# Altium integrated library EE209V2.IntLib: 25 symbols
Pins are listed as number, name and electrical type; pins without a type are passive.

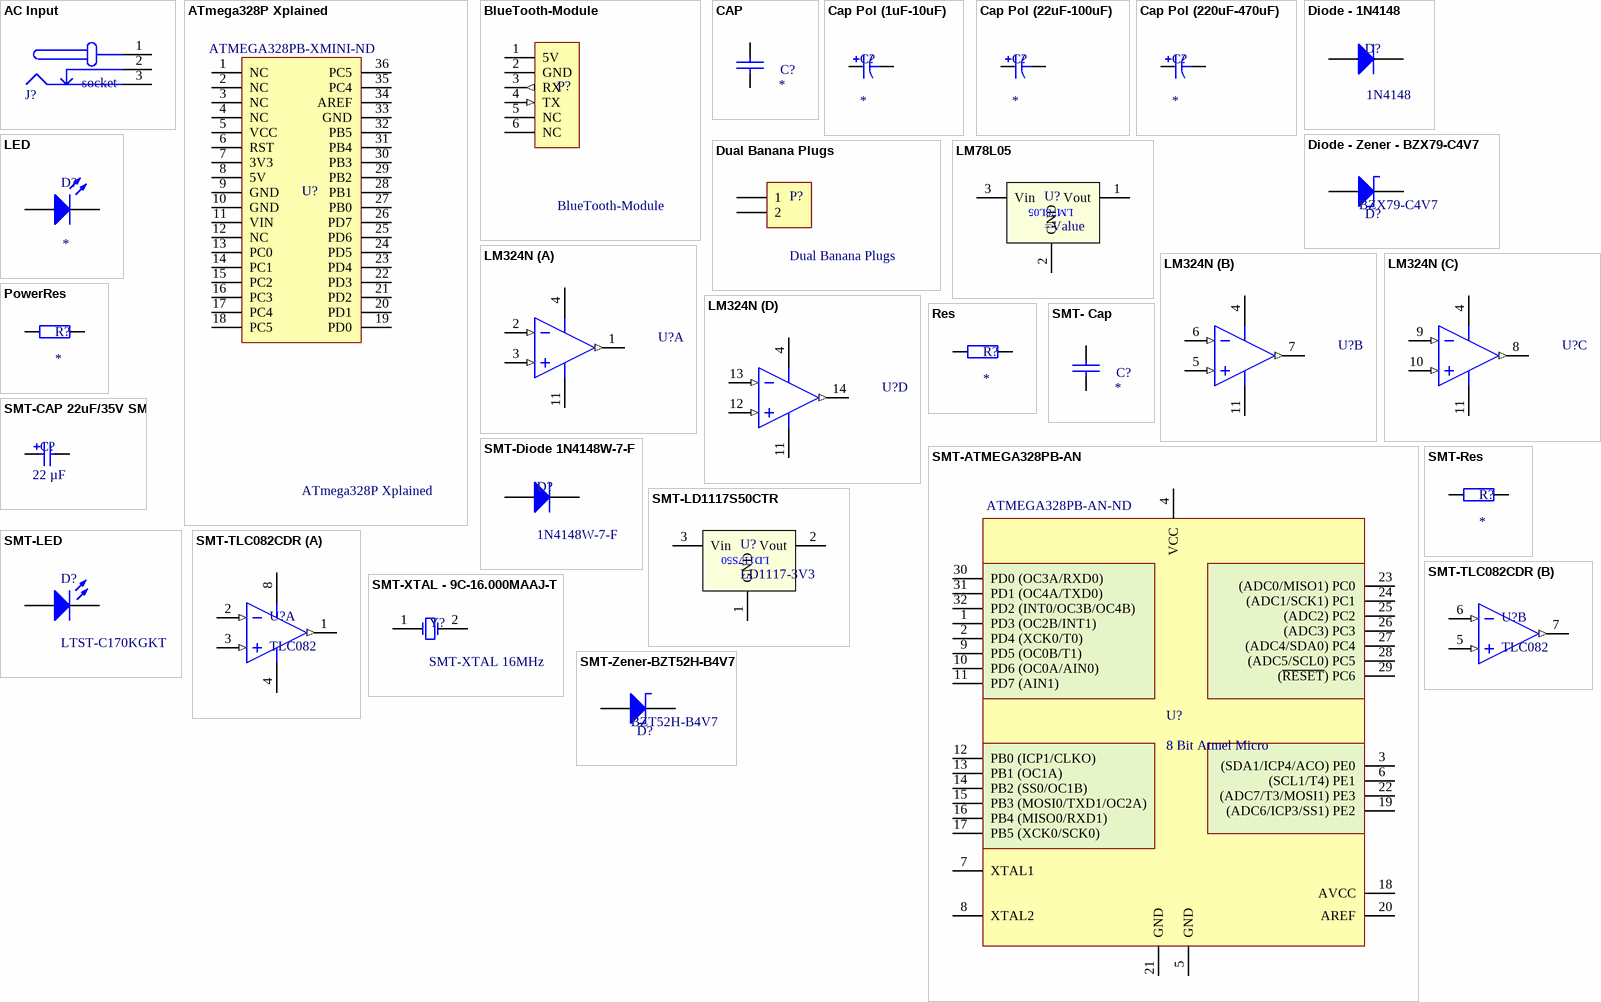
[diagram p0: symbols AC Input to SMT-Zener-BZT52H-B4V7]

## AC Input
designator J?, comment socket
DC socket; Value: socket
footprint AC-Socket
pins: 1 VCC (power) "Common VCC", 2 GND_ALT (power) "Alternate Supply Ground", 3 GND (power) "Common Ground"

## ATmega328P Xplained
designator U?  Supplier Part Number 1: ATMEGA328PB-XMINI-ND
Header, 18-Pin, Dual row; Manufacturer: Microchip Technology; Manufacturer Part Number: ATMEGA328PB-XMINI; Description: EVAL KIT FOR ATMEGA328; Board Type: Evaluation Platform; Core Processor: AVR; Platform: ATmega328P Xplained Mini; Contents: Board(s); Supplier 1: Digi-Key; RoHS: RoHS Compliant; Category: Development Boards, Kits, Programmers; Stock 1: 454; Pricing 1: 1=15.11 (NZD); Part Status: Active; Type: MCU 8-Bit; Operating System: -; For Use With/Related Products: ATmega328P; Mounting Type: Fixed; ComponentLink1URL: http://www.microchip.com/mymicrochip/filehandler.aspx?ddocname=en589665; ComponentLink1Description: http://www.microchip.com/mymicrochip/filehandler.aspx?ddocname=en589665
footprint ATmeg328P Xplained
pins: 1 NC, 2 NC, 3 NC, 4 NC, 5 VCC (power), 6 RST, 7 3V3, 8 5V (power), 9 GND (power), 10 GND (power), 11 VIN (power), 12 NC, 13 PC0, 14 PC1, 15 PC2, 16 PC3, 17 PC4, 18 PC5, 19 PD0, 20 PD1, 21 PD2, 22 PD3, 23 PD4, 24 PD5, 25 PD6, 26 PD7, 27 PB0, 28 PB1, 29 PB2, 30 PB3, 31 PB4, 32 PB5, 33 GND, 34 AREF, 35 PC4, 36 PC5

## BlueTooth-Module
designator P?
Header, 6-Pin; LatestRevisionDate: 17-Jul-2002; LatestRevisionNote: Re-released for DXP Platform.; Publisher: Altium Limited
footprint HDR1X6 (Connector; Header; 6 Position)
signal-integrity model Connector
pins: 1 5V, 2 GND, 3 RX (out), 4 TX (in), 5 NC, 6 NC

## CAP
designator C?
Capacitor Non Polarised Through Hole; Value: *
footprint FILM CAP-0.2
pins: 1, 2

## Cap Pol (1uF-10uF)
designator C?
Polarized Capacitor (Axial); Published: 8-Jun-2000; LatestRevisionDate: 17-Jul-2002; LatestRevisionNote: Re-released for DXP Platform.; PackageReference: POLAR0.8; Publisher: Altium Limited; PackageDescription: Polarized Capacitor; 2 Leads; Value: *
footprint CAP-RAD-2mm Pitch (Cap 5 X 6.8)
pins: 1, 2
1 alternate drawing of the same symbol

## Cap Pol (22uF-100uF)
designator C?
Polarized Capacitor (Axial); Published: 8-Jun-2000; LatestRevisionDate: 17-Jul-2002; LatestRevisionNote: Re-released for DXP Platform.; PackageReference: POLAR0.8; Publisher: Altium Limited; PackageDescription: Polarized Capacitor; 2 Leads; Value: *
footprint CAP-RAD-3mm Pitch
pins: 1, 2
1 alternate drawing of the same symbol

## Cap Pol (220uF-470uF)
designator C?
Polarized Capacitor (Axial); Published: 8-Jun-2000; LatestRevisionDate: 17-Jul-2002; LatestRevisionNote: Re-released for DXP Platform.; PackageReference: POLAR0.8; Publisher: Altium Limited; PackageDescription: Polarized Capacitor; 2 Leads; Value: *
footprint CAP-RAD-7.5mm Pitch
pins: 1, 2
1 alternate drawing of the same symbol

## Diode - 1N4148
designator D?, comment 1N4148
DIODE GEN PURP 100V 200MA DO35; Manufacturer: ON Semiconductor; Manufacturer Part Number: 1N4148TR; Diode Type: Standard; Speed: Small Signal =< 200mA (Io), Any Speed; Capacitance @ Vr, F: 4pF @ 0V, 1MHz; Supplier 1: Digi-Key; RoHS: RoHS Compliant; Category: Discrete Semiconductor Products; Stock 1: 1658049; Pricing 1: 1=0.16, 10=0.109, 100=0.0592, 500=0.03648, 1000=0.02488 (NZD); Part Status: Active; Current - Average Rectified (Io): 200mA; Mounting Type: Through Hole; Package / Case: DO-204AH, DO-35, Axial; Supplier Device Package: DO-35; Operating Temperature - Junction: -65°C ~ 175°C; Base Part Number: 1N4148; ComponentLink1URL: https://www.fairchildsemi.com/datasheets/1N/1N914.pdf; ComponentLink1Description: https://www.fairchildsemi.com/datasheets/1N/1N914.pdf; Supplier Part Number 1: 1N4148FSCT-ND
footprint AXIAL-DIODE-0.4
pins: 1 A, 2 K

## Diode - Zener - BZX79-C4V7
designator D?, comment BZX79-C4V7
Zener Diode; Manufacturer: Nexperia USA Inc.; Manufacturer Part Number: BZX79-C4V7,143; Description: DIODE ZENER 4.7V 400MW DO35; Tolerance: ±5%; Supplier 1: Digi-Key; RoHS: RoHS Compliant; Category: Discrete Semiconductor Products; Stock 1: 8933; Pricing 1: 1=0.23, 10=0.206, 100=0.1123, 500=0.06912, 1000=0.04714 (NZD); Packaging: Cut Tape (CT); Part Status: Active; Operating Temperature: -65°C ~ 200°C; Mounting Type: Through Hole; Package / Case: DO-204AH, DO-35, Axial; Supplier Device Package: DO-35; ComponentLink1URL: https://assets.nexperia.com/documents/data-sheet/BZX79.pdf; ComponentLink1Description: https://assets.nexperia.com/documents/data-sheet/BZX79.pdf; Supplier Part Number 1: 1727-1864-1-ND
footprint AXIAL-DIODE-0.4
pins: 1 A, 2 K

## Dual Banana Plugs
designator P?
M6 Holes; LatestRevisionDate: 17-Jul-2002; LatestRevisionNote: Re-released for DXP Platform.; Publisher: Altium Limited
footprint Dual Banana Plug (Connector; 2 Position)
pins: 1, 2

## LED
designator D?
Typical GaAs LED; Manufacturer: Generic Components; Class I: Optoelectronic; Published: 8-Jun-2000; Revision: July-2002: Re-released for DXP Platform.; Publisher: Altium Limited; Class II: LED; Value: *
footprint LED
pins: 1 A, 2 K

## LM78L05
designator U?
Voltage Regulator; Manufacturer: ON Semiconductor; Manufacturer Part Number: LM78L05ACZX; Description: IC REG LINEAR 5V 100MA TO92-3; Output Configuration: Positive; Output Type: Fixed; Voltage - Input (Max): 30V; Voltage - Output (Min/Fixed): 5V; Current - Output: 100mA; PSRR: 80dB (120Hz); Protection Features: Over Temperature, Short Circuit; Supplier 1: Digi-Key; RoHS: RoHS Compliant; Category: Integrated Circuits (ICs); Stock 1: 7782; Pricing 1: 1=0.69, 10=0.517, 100=0.3226, 500=0.2207, 1000=0.16976 (NZD); Packaging: Cut Tape (CT); Part Status: Active; Voltage - Output (Max): -; Voltage Dropout (Max): -; Control Features: -; Operating Temperature: -40°C ~ 125°C; Mounting Type: Through Hole; Package / Case: TO-226-3, TO-92-3 (TO-226AA) (Formed Leads); Supplier Device Package: TO-92-3; Base Part Number: LM78L05; ComponentLink1URL: https://www.fairchildsemi.com/datasheets/MC/MC78L05A.pdf; ComponentLink1Description: https://www.fairchildsemi.com/datasheets/MC/MC78L05A.pdf; Supplier Part Number 1: LM78L05ACZXCT-ND
footprint ECE-REG-LE-TO-92 (Regulator LE50)
pins: 1 Vout, 2 GND, 3 Vin

## LM324N
designator U?, comment LM324  (value not drawn)
IC OPAMP GP 14DIP; Manufacturer: ON Semiconductor; Manufacturer Part Number: LM324N; Amplifier Type: General Purpose; Current - Supply: 1mA; Voltage - Supply, Single/Dual (±): 3 V ~ 32 V, ±1.5 V ~ 16 V; Supplier 1: Digi-Key; RoHS: RoHS Compliant; Category: Integrated Circuits (ICs); Stock 1: 2900; Pricing 1: 1=0.9, 10=0.775, 100=0.5789, 500=0.45482, 1000=0.35145 (NZD); Packaging: Tube; Part Status: Active; Output Type: -; Slew Rate: -; Operating Temperature: 0°C ~ 70°C; Mounting Type: Through Hole; Package / Case: 14-DIP (0.300", 7.62mm); Supplier Device Package: 14-DIP; Base Part Number: LM324; ComponentLink1URL: https://www.fairchildsemi.com/datasheets/LM/LM2902.pdf; ComponentLink1Description: https://www.fairchildsemi.com/datasheets/LM/LM2902.pdf; Supplier Part Number 1: LM324NFS-ND
footprint DIP-14 (DIP; 14 Leads; Row Spacing 7.62 mm; Pitch 2.54 mm)
pins on every part: 4 VDD (power), 11 VSS (power)
part A pins: 1 VOUTA (out), 2 VINA- (in), 3 VINA+ (in)
part B pins: 5 VINB+ (in), 6 VINB- (in), 7 VOUTB (out)
part C pins: 8 VOUTC (out), 9 VINC- (in), 10 VINC+ (in)
part D pins: 12 VIND+ (in), 13 VIND- (in), 14 VOUTD (out)

## PowerRes
designator R?
High Wattage Resistor; Published: 8-Jun-2000; LatestRevisionDate: 17-Jul-2002; LatestRevisionNote: Re-released for DXP Platform.; PackageReference: AXIAL-0.4; Publisher: Altium Limited; Value: *
footprint AXIAL-0.9
pins: 1, 2

## Res
designator R?
Through Hole Resistor; Published: 8-Jun-2000; LatestRevisionDate: 17-Jul-2002; LatestRevisionNote: Re-released for DXP Platform.; PackageReference: AXIAL-0.4; Publisher: Altium Limited; Value: *; ComponentLink1Description: http://www.royalohm.com/pdf/product2017/PrecisionMetalMF.pdf
footprint AXIAL-0.4
pins: 1, 2

## SMT- Cap
designator C?
SMT Capacitor Non Polarised; Value: *
footprint 0805 CAP (http://www.digikey.co.nz/Web%20Export/Supplier%20Content/Vishay_8026/PDF/VishayBeyschlag_SolderPad.pdf?redirected=1 with dimension G modified by +0.25mm)
pins: 1, 2

## SMT-ATMEGA328PB-AN
designator U?, comment 8 Bit Atmel Micro  Supplier Part Number 1: ATMEGA328PB-AN-ND
IC MCU 8BIT 32KB FLASH 32TQFP; Manufacturer Part Number: ATMEGA328PB-AN; Core Processor: AVR; Core Size: 8-Bit; Speed: 20MHz; Connectivity: I²C, SPI, UART/USART; Peripherals: Brown-out Detect/Reset, POR, PWM, WDT; Number of I/O: 27; Program Memory Size: 32KB (16K x 16); EEPROM Size: 1K x 8; RAM Size: 2K x 8; Voltage - Supply (Vcc/Vdd): 1.8 V ~ 5.5 V; Data Converters: A/D 8x10b; Oscillator Type: Internal; Supplier 1: Digi-Key; Manufacturer: Atmel; RoHS: RoHS Compliant; Category: Integrated Circuits (ICs); Stock 1: 366; Pricing 1: 1=2.74, 10=2.448, 25=2.2032, 100=2.0074, 250=1.81152, 500=1.62548, 1000=1.37088 (USD); Packaging: Tray; Part Status: Active; Program Memory Type: FLASH; Operating Temperature: -40°C ~ 105°C (TA); Package / Case: 32-TQFP; Supplier Device Package: 32-TQFP (7x7); ComponentLink1URL: http://www.atmel.com/images/atmel-42397-8-bit-avr-microcontroller-atmega328pb_datasheet.pdf; ComponentLink1Description: http://www.atmel.com/images/atmel-42397-8-bit-avr-microcontroller-atmega328pb_datasheet.pdf
footprint 32 - TQFP
pins: 1 PD3 (OC2B/INT1) , 2 PD4 (XCK0/T0) , 3 (SDA1/ICP4/ACO) PE0, 4 VCC, 5 GND, 6 (SCL1/T4) PE1, 7 XTAL1, 8 XTAL2, 9 PD5 (OC0B/T1) , 10 PD6 (OC0A/AIN0) , 11 PD7 (AIN1) , 12 PB0 (ICP1/CLKO) , 13 PB1 (OC1A) , 14 PB2 (SS0/OC1B) , 15 PB3 (MOSI0/TXD1/OC2A) , 16 PB4 (MISO0/RXD1) , 17 PB5 (XCK0/SCK0), 18 AVCC, 19 (ADC6/ICP3/SS1) PE2, 20 AREF, 21 GND, 22 (ADC7/T3/MOSI1) PE3, 23 (ADC0/MISO1) PC0, 24 (ADC1/SCK1) PC1, 25 (ADC2) PC2, 26 (ADC3) PC3, 27 (ADC4/SDA0) PC4, 28 (ADC5/SCL0) PC5, 29 (~{RESET}) PC6, 30 PD0 (OC3A/RXD0), 31 PD1 (OC4A/TXD0), 32 PD2 (INT0/OC3B/OC4B)

## SMT-CAP 22uF/35V SM
designator C?, comment Capacitance 1: 22 µF  (hidden comment: CAP ALUM 22UF 20% 50V SMD)
Manufacturer: Nichicon; Manufacturer Part Number: UWX1V220MCL1GB; Description: CAP ALUM 22UF 20% 35V SMD; Lifetime @ Temp.: 2000 Hrs @ 85°C; Polarization: Polar; Surface Mount Land Size: 0.260" L x 0.260" W (6.60mm x 6.60mm); Revision: July-2002: Re-released for DXP Platform.; Supplier 1: Digi-Key; RoHS: RoHS Compliant; Category: Capacitors; Stock 1: 680; Pricing 1: 1=0.59, 10=0.406, 100=0.2304, 500=0.16268 (NZD); Packaging: Cut Tape (CT); Part Status: Active; Tolerance: ±20%; ESR (Equivalent Series Resistance): -; Operating Temperature: -40°C ~ 85°C; Ratings: -; Applications: General Purpose; Lead Spacing: -; Size / Dimension: 0.248" Dia (6.30mm); Height - Seated (Max): 0.213" (5.40mm); Mounting Type: Surface Mount; Package / Case: Radial, Can - SMD; ComponentLink1URL: http://nichicon-us.com/english/products/pdfs/e-uwx.pdf; ComponentLink1Description: http://nichicon-us.com/english/products/pdfs/e-uwx.pdf; Supplier Part Number 1: 493-2118-1-ND
footprint CAP POL 8x5.4mm SMT
pins: 1, 2

## SMT-Diode 1N4148W-7-F
designator D?, comment 1N4148W-7-F
DIODE GEN PURP 100V 300MA SOD123; Manufacturer: Diodes Incorporated; Manufacturer Part Number: 1N4148W-13-F; Description: DIODE GEN PURP 100V 150MA SOD123; Diode Type: Standard; Current - Average Rectified (Io): 150mA; Speed: Small Signal =< 200mA (Io), Any Speed; Capacitance @ Vr, F: 2pF @ 0V, 1MHz; Supplier 1: Digi-Key; RoHS: RoHS Compliant; Category: Discrete Semiconductor Products; Stock 1: 5282; Pricing 1: 1=0.33, 10=0.292, 100=0.1586, 500=0.0976, 1000=0.06656 (NZD); Packaging: Cut Tape (CT); Part Status: Active; Mounting Type: Surface Mount; Package / Case: SOD-123; Supplier Device Package: SOD-123; Operating Temperature - Junction: -65°C ~ 150°C; Base Part Number: 1N4148W; ComponentLink1URL: https://www.diodes.com/assets/Datasheets/ds30086.pdf; ComponentLink1Description: https://www.diodes.com/assets/Datasheets/ds30086.pdf; Supplier Part Number 1: 1N4148W-13FDICT-ND
footprint SOD123 (SOD-123; 2 Leads; Body 2.7 x 1.6 mm, (LxW))
pins: 1 A, 2 K

## SMT-LD1117S50CTR
designator U?, comment LD1117-3V3
LDO Voltage Regulator 5V; Manufacturer: STMicroelectronics; Manufacturer Part Number: LD1117S50CTR; Description: IC REG LINEAR 5V 800MA SOT223; Output Configuration: Positive; Output Type: Fixed; Voltage - Input (Max): 15V; Voltage Dropout (Max): 1.3V @ 800mA; Current - Output: 800mA; PSRR: 75dB (120Hz); Protection Features: Over Current, Over Temperature; Value: LD1117-3V3; Supplier 1: Digi-Key; RoHS: RoHS Compliant; Category: Integrated Circuits (ICs); Stock 1: 24009; Pricing 1: 1=0.7, 10=0.596, 100=0.4451, 500=0.34978, 1000=0.27029 (NZD); Packaging: Cut Tape (CT); Part Status: Active; Voltage - Output (Min/Fixed): 5V; Voltage - Output (Max): -; Control Features: -; Operating Temperature: -40°C ~ 125°C; Mounting Type: Surface Mount; Package / Case: TO-261-4, TO-261AA; Supplier Device Package: SOT-223; Base Part Number: LD1117; ComponentLink1URL: http://www.st.com/content/ccc/resource/technical/document/datasheet/99/3b/7d/91/91/51/4b/be/CD00000544.pdf/files/CD00000544.pdf/jcr:content/translations/en.CD00000544.pdf; ComponentLink1Description: http://www.st.com/content/ccc/resource/technical/document/datasheet/99/3b/7d/91/91/51/4b/be/CD00000544.pdf/files/CD00000544.pdf/jcr:content/translations/en.CD00000544.pdf; Supplier Part Number 1: 497-1243-1-ND
footprint SOT223 (SOT223_TRANSISTOR)
pins: 1 GND, 2 Vout, 3 Vin
text: LD117S50

## SMT-LED
designator D?, comment LTST-C170KGKT
SMT LED; Manufacturer: Lite-On Inc.; Description: LED GREEN CLEAR 0805 SMD; Color: Green; Lens Color: Colorless; Lens Transparency: Clear; Millicandela Rating: 35mcd; Lens Style/Size: Rectangle with Flat Top, 1.40mm x 1.25mm; Voltage - Forward (Vf) (Typ): 2V; Current - Test: 20mA; Viewing Angle: 130°; Wavelength - Dominant: 571nm; Wavelength - Peak: 574nm; Supplier 1: Digi-Key; Manufacturer Part Number: LTST-C170KGKT; RoHS: RoHS Compliant; Category: Optoelectronics; Stock 1: 503069; Pricing 1: 1=0.62, 10=0.459, 25=0.338, 100=0.2415, 250=0.16416, 500=0.14486, 1000=0.11347 (NZD); Packaging: Cut Tape (CT); Part Status: Active; Mounting Type: Surface Mount; Features: -; Package / Case: 0805 (2012 Metric); Size / Dimension: 2.00mm L x 1.25mm W; Height (Max): 1.10mm; ComponentLink1URL: http://optoelectronics.liteon.com/upload/download/DS22-2000-073/LTST-C170KGKT.pdf; ComponentLink1Description: http://optoelectronics.liteon.com/upload/download/DS22-2000-073/LTST-C170KGKT.pdf; Supplier Part Number 1: 160-1414-1-ND
footprint 0805 LED (RED AS AlGaAs SMD LED, Body; 2mm x 1.25 mm (LxW))
pins: 1 A, 2 K

## SMT-Res
designator R?
SMT Resistor; Published: 8-Jun-2000; LatestRevisionDate: 17-Jul-2002; LatestRevisionNote: Re-released for DXP Platform.; PackageReference: AXIAL-0.4; Publisher: Altium Limited; Value: *; ComponentLink1Description: https://nz.mouser.com/datasheet/2/315/AOA0000C304-1149620.pdf
footprint 0805 RES (http://www.digikey.co.nz/Web%20Export/Supplier%20Content/Vishay_8026/PDF/VishayBeyschlag_SolderPad.pdf?redirected=1 with dimension G modified by +0.25mm)
pins: 1, 2

## SMT-TLC082CDR
designator U?, comment TLC082
IC OPAMP GP 10MHZ 8SOIC; Manufacturer: Texas Instruments; Manufacturer Part Number: TLC082CDR; Amplifier Type: General Purpose; Slew Rate: 19 V/µs; Current - Supply: 1.9mA; Voltage - Supply, Single/Dual (±): 4.5 V ~ 16 V, ±2.25 V ~ 8 V; Supplier 1: Digi-Key; RoHS: RoHS Compliant; Category: Integrated Circuits (ICs); Stock 1: 29765; Pricing 1: 1=3.44, 10=3.087, 100=2.4808, 500=2.03822, 1000=1.68881 (NZD); Packaging: Cut Tape (CT); Part Status: Active; Output Type: -; Operating Temperature: 0°C ~ 70°C; Mounting Type: Surface Mount; Package / Case: 8-SOIC (0.154", 3.90mm Width); Supplier Device Package: 8-SOIC; Base Part Number: TLC082; ComponentLink1URL: http://www.ti.com/lit/ds/symlink/tlc080a.pdf; ComponentLink1Description: http://www.ti.com/lit/ds/symlink/tlc080a.pdf; Supplier Part Number 1: 296-2421-1-ND
footprint SO - 8
part A pins: 1 VOUTA (out), 2 VINA- (in), 3 VINA+ (in), 4 VSS (power), 8 VDD (power)
part B pins: 5 VINA+ (in), 6 VINA- (in), 7 VOUTA (out)

## SMT-XTAL - 9C-16.000MAAJ-T
designator Y?, comment SMT-XTAL 16MHz
CRYSTAL 16.0000MHZ 18PF SMD; Manufacturer: TXC CORPORATION; Manufacturer Part Number: 9C-16.000MAAJ-T; Frequency Stability: ±30ppm; Operating Mode: Fundamental; Supplier 1: Digi-Key; RoHS: RoHS Compliant; Category: Crystals, Oscillators, Resonators; Stock 1: 11514; Pricing 1: 1=0.75, 10=0.628, 50=0.5656, 100=0.5026, 500=0.47744 (NZD); Packaging: Cut Tape (CT); Part Status: Active; Type: MHz Crystal; Frequency Tolerance: ±30ppm; Load Capacitance: 18pF; Operating Temperature: -20°C ~ 70°C; Ratings: -; Mounting Type: Surface Mount; Package / Case: HC-49/US; Size / Dimension: 0.449" L x 0.189" W (11.40mm x 4.80mm); Height - Seated (Max): 0.161" (4.10mm); ComponentLink1URL: http://www.txccorp.com/download/products/quartz_crystals/2015TXC_9C_32.pdf; ComponentLink1Description: http://www.txccorp.com/download/products/quartz_crystals/2015TXC_9C_32.pdf; Supplier Part Number 1: 887-1059-1-ND
footprint HC49-US (20Mhz Crystal)
pins: 1 OSC1, 2 OSC2

## SMT-Zener-BZT52H-B4V7
designator D?, comment BZT52H-B4V7
SMT Zener Diode; Manufacturer: Nexperia USA Inc.; Manufacturer Part Number: BZT52H-B4V7,115; Description: DIODE ZENER 4.7V 375MW SOD123F; Tolerance: ±2%; Supplier 1: Digi-Key; RoHS: RoHS Compliant; Category: Discrete Semiconductor Products; Stock 1: 0; Pricing 1: 1=0.51, 10=0.408, 100=0.2164, 500=0.14232, 1000=0.09678 (NZD); Packaging: Cut Tape (CT); Part Status: Active; Operating Temperature: -65°C ~ 150°C (TA); Mounting Type: Surface Mount; Package / Case: SOD-123F; Supplier Device Package: SOD-123F; ComponentLink1URL: https://assets.nexperia.com/documents/data-sheet/BZT52H_SER.pdf; ComponentLink1Description: https://assets.nexperia.com/documents/data-sheet/BZT52H_SER.pdf; Supplier Part Number 1: 1727-1611-1-ND
footprint SOD123 (SOD-123; 2 Leads; Body 2.7 x 1.6 mm, (LxW))
pins: 1 A, 2 K